# Altium footprint library 1998933.PcbLib: 1 footprints
Each footprint in its own frame and in the unit in brackets; x right, y up, seen from the top. Pads: shape width x height; smd on the part's side, far side on the other; paste and mask are expansions set on the pad; w line width, h text height; cw(c..) or ccw(c..) is an arc to the next point about the centre after c.
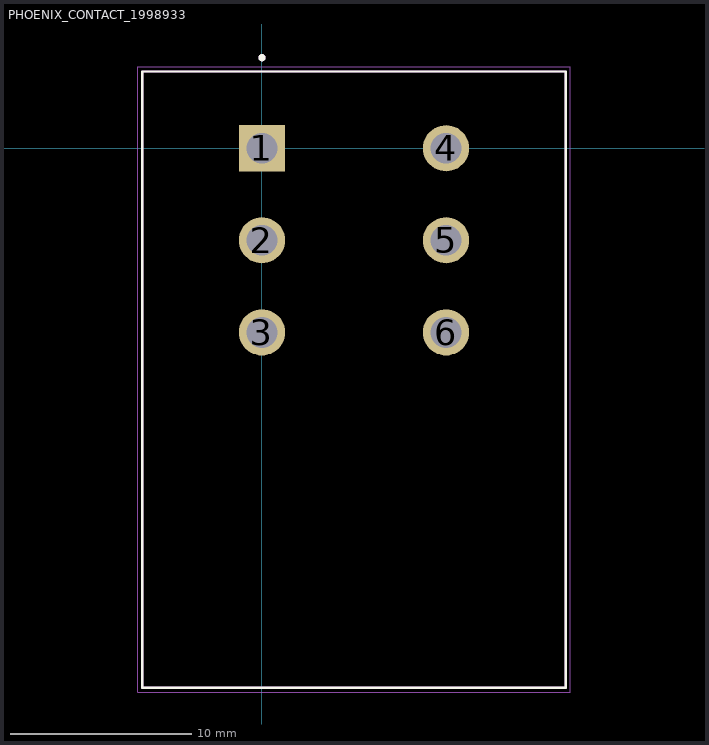
[diagram p0: the footprint, top view; thin cyan lines are the x and y axes]

## PHOENIX_CONTACT_1998933 [mm]
pads (6):
  rect 2.55x2.55 hole 1.7: 1(0,0)
  round 2.55 hole 1.7: 2(0,-5.08) 3(0,-10.16) 4(10.16,0) 5(10.16,-5.08) 6(10.16,-10.16)
Top Overlay:
  circle w0.2: c0,5 r0.1
  lines w0.127: -6.6,-29.76 16.76,-29.76 16.76,4.24 -6.6,4.24 -6.6,-29.76
Mechanical 13:
  circle w0.2: c0,5 r0.1
  lines w0.127: -6.6,-29.76 16.76,-29.76 16.76,4.24 -6.6,4.24 -6.6,-29.76
Mechanical 15:
  lines w0.05: -6.85,-30.01 17.01,-30.01 17.01,4.49 -6.85,4.49 -6.85,-30.01